# Altium footprint library PCB1.PcbLib: 3 footprints
Each footprint in its own frame and in the unit in brackets; x right, y up, seen from the top. Pads: shape width x height; smd on the part's side, far side on the other; paste and mask are expansions set on the pad; w line width, h text height; cw(c..) or ccw(c..) is an arc to the next point about the centre after c.
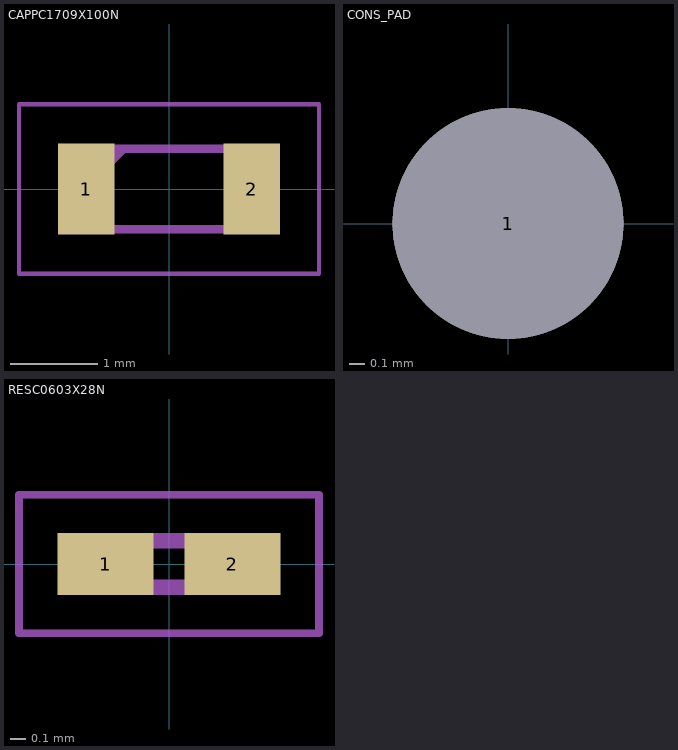
[diagram p0: the footprints below, top view; thin cyan lines are the x and y axes]

## CAPPC1709X100N [mm]
pads (2):
  rect 0.65x1.05 smd: 1(-0.95,0) 2(0.95,0)
Mechanical 13:
  lines w0.1: -0.85,0.138 -0.525,0.462 ; -0.85,-0.462 0.85,-0.462 0.85,0.462 -0.85,0.462 -0.85,-0.462
Mechanical 15:
  lines w0.05: -1.725,-0.975 1.725,-0.975 1.725,0.975 -1.725,0.975 -1.725,-0.975
3D body "TACL106K010XTA.stp": height 1, standoff 0, extent -0.85,-0.463 0.85,0.463

## CONS_PAD [mm]
pads (1):
  round 1.5 hole 1.5: 1(0,0)
Multi-Layer:
  region: -0.75,0 -0.75,0.449 -0.75,0.548 -0.699,0.738 -0.6,0.909 -0.461,1.049 -0.289,1.148 -0.099,1.199 0.099,1.199 0.289,1.148 0.461,1.049 0.6,0.909 0.699,0.738 0.75,0.548 0.75,0.449 0.75,0

## RESC0603X28N [mm]
pads (2):
  rect 0.625x0.4 smd: 1(-0.412,0) 2(0.412,0)
Mechanical 13:
  lines w0.1: -0.3,-0.15 -0.3,0.15 0.3,0.15 0.3,-0.15 -0.3,-0.15
Mechanical 15:
  lines w0.05: -0.975,-0.45 -0.975,0.45 0.975,0.45 0.975,-0.45 -0.975,-0.45
3D body "CRCW020156R2FNED.stp": height 0.28, standoff 0, extent -0.3,-0.15 0.3,0.15